# Altium schematic symbol library SchLib_ADH.SchLib: 241 symbols (part 5 of 9)
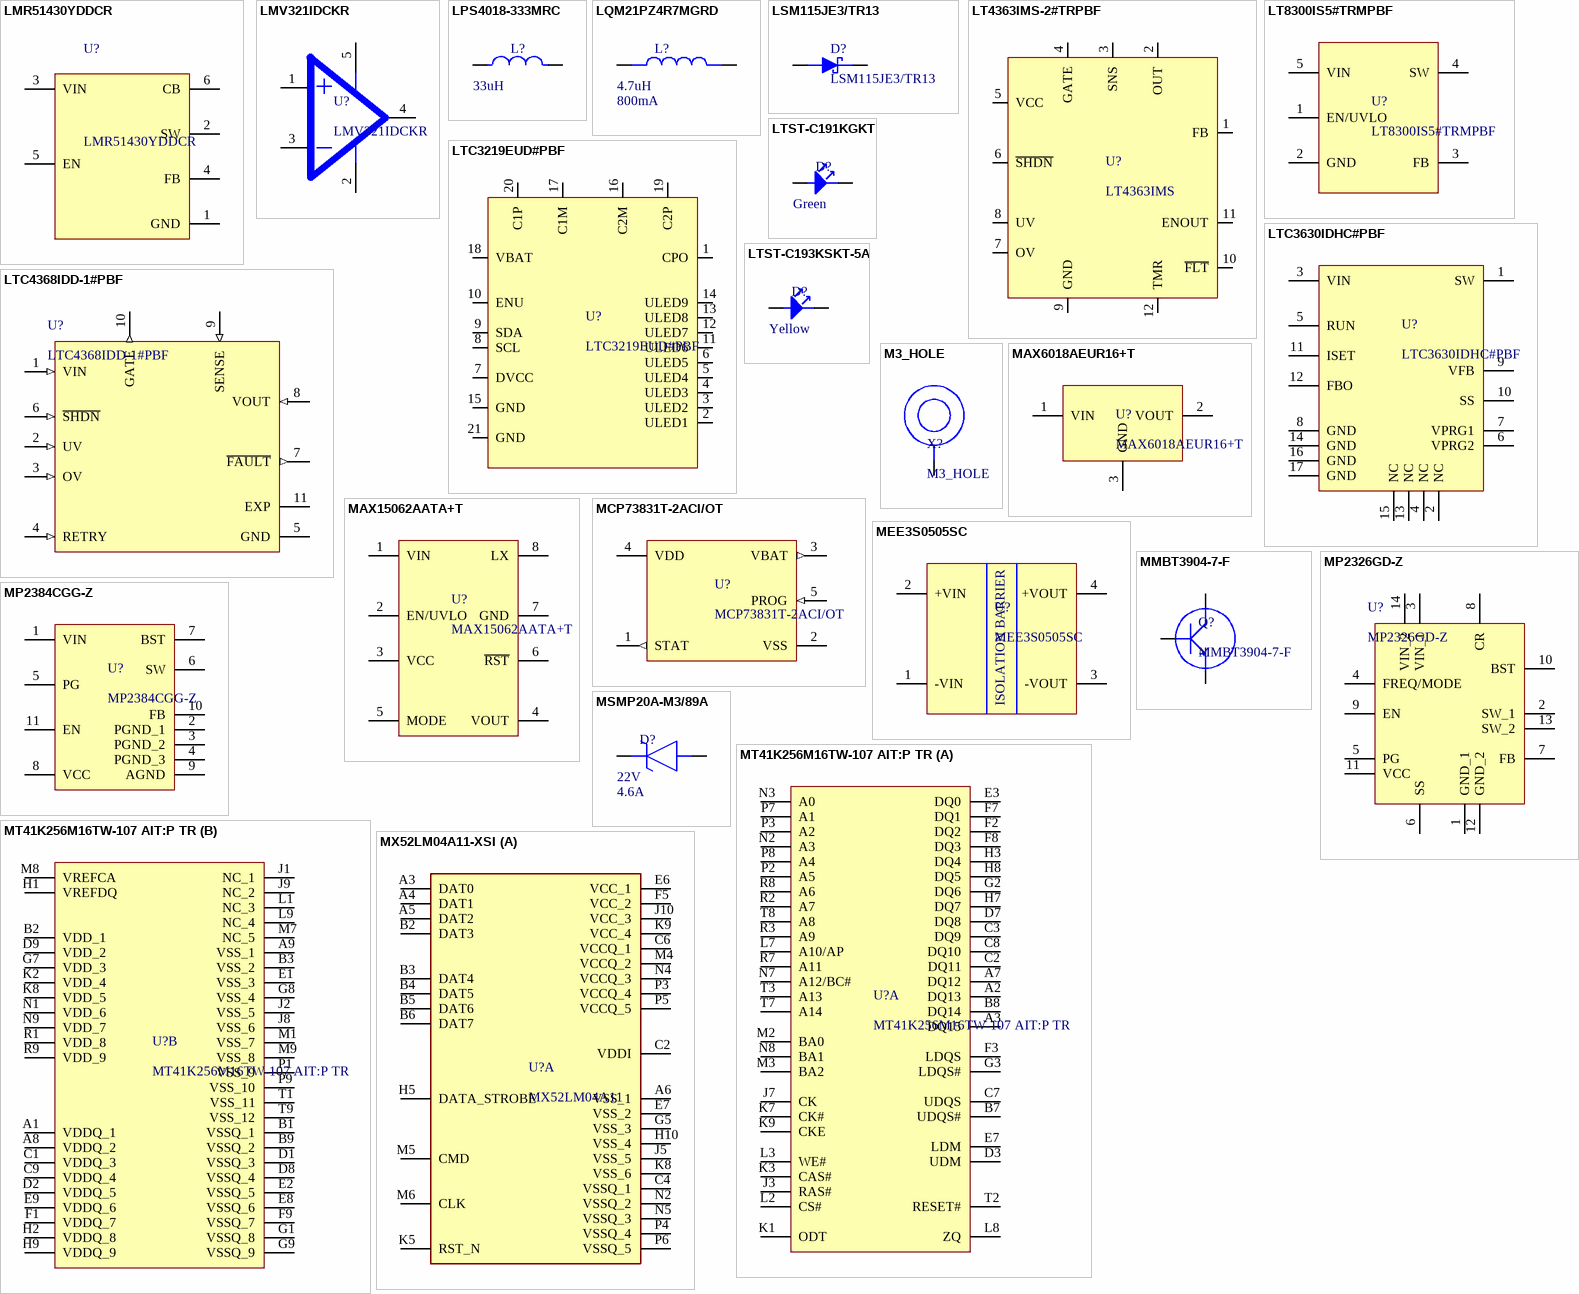
[diagram p11: symbols LMR51430YDDCR to MX52LM04A11-XSI]

## LT4363IMS-2#TRPBF
designator U?, comment LT4363IMS
IC SURGE STOPPER HV 12-MSOP; Manufacturer: Analog Devices / Linear Technology; Manufacturer Part Number: LT4363IMS-2#TRPBF; Working Voltage: 80V; Clamping Voltage: 27V; Number of Circuits: 1; Supplier: Digi-Key; Supplier Part Number: LT4363IMS-2#TRPBFCT-ND; RoHS: Yes; Category: Voltage Supervisors; Stock: 13263; Pricing: 1=8,22, 10=7,427, 25=7,0812, 100=6,1485, 250=5,87216, 500=5,354, 1000=4,66317 (USD); Case/Package: TSSOP; Pins: 12; Package Quantity: 2500; Packaging: Tape and Reel; Lead Free: Lead Free; RoHS Compliant: Yes; ComponentLink1URL: https://datasheet.ciiva.com/329/40854-329672.pdf?src-supplier=Digi-Key; ComponentLink1Description: https://datasheet.ciiva.com/329/40854-329672.pdf?src-supplier=Digi-Key
footprint SOP65P490X110-12N
pins: 1 FB, 2 OUT, 3 SNS, 4 GATE, 5 VCC, 6 ~{SHDN}, 7 OV, 8 UV, 9 GND, 10 ~{FLT}, 11 ENOUT, 12 TMR

## LT8300IS5#TRMPBF
designator U?
IC REG FLYBACK INV ISO TSOT23; Manufacturer: Analog Devices / Linear Technology; Supplier: Digikey; Supplier Part Number: 505-LT8300IS5#TRMPBFCT-ND; Manufacturer Part Number: LT8300IS5#TRMPBF; RoHS: Yes; Category: Voltage Regulators - Switching; Stock: 7693; Pricing: 1=9,62, 10=8,686, 25=8,282, 100=7,1912, 250=6,868 (USD); ComponentLink1URL: https://datasheet.ciiva.com/6594/42025-6594942.pdf?src-supplier=Digikey; ComponentLink1Description: https://datasheet.ciiva.com/6594/42025-6594942.pdf?src-supplier=Digikey
footprint SOT95P280X100-5N
pins: 1 EN/UVLO, 2 GND, 3 FB, 4 SW, 5 VIN

## LTC3219EUD#PBF
designator U?
LED Driver 9 Segment 2100uA Supply Current 20-Pin QFN EP Tube; Manufacturer: Analog Devices / Linear Technology; Supplier: Digi-Key; Supplier Part Number: 505-LTC3219EUD#PBF-ND; Manufacturer Part Number: LTC3219EUD#PBF; RoHS: Yes; Category: LED Drivers; Stock: 7227; Pricing: 1=5,86, 10=5,264, 25=4,9768, 100=4,3132, 250=4,092, 500=3,67176, 1000=3,09666, 2500=2,94183 (USD); ComponentLink1URL: https://datasheet.ciiva.com/1553/1727693-1553028.pdf?src-supplier=Digi-Key; ComponentLink1Description: https://datasheet.ciiva.com/1553/1727693-1553028.pdf?src-supplier=Digi-Key; ComponentLink2URL: https://datasheet.ciiva.com/1553/1727693-1553028.pdf?src-supplier=Farnell; ComponentLink2Description: https://datasheet.ciiva.com/1553/1727693-1553028.pdf?src-supplier=Farnell; ComponentLink3URL: https://datasheet.ciiva.com/15135/getdatasheetpartid-433445-15135304.pdf?src-supplier=Verical; ComponentLink3Description: https://datasheet.ciiva.com/15135/getdatasheetpartid-433445-15135304.pdf?src-supplier=Verical; ComponentLink4URL: https://datasheet.ciiva.com/48696/001255905-da-01-en-ic-led-drivr-q-ltc3219eud-pbf-qfn-20-ltc-48696182.pdf?src-supplier=Conrad; ComponentLink4Description: https://datasheet.ciiva.com/48696/001255905-da-01-en-ic-led-drivr-q-ltc3219eud-pbf-qfn-20-ltc-48696182.pdf?src-supplier=Conrad
footprint QFN40P300X300X80-21N
pins: 1 CPO, 2 ULED1, 3 ULED2, 4 ULED3, 5 ULED4, 6 ULED5, 7 DVCC, 8 SCL, 9 SDA, 10 ENU, 11 ULED6, 12 ULED7, 13 ULED8, 14 ULED9, 15 GND, 16 C2M, 17 C1M, 18 VBAT, 19 C2P, 20 C1P, 21 GND

## LTC3630IDHC#PBF
designator U?
Conv DC-DC 4V to 65V Synchronous Step Down Single-Out 0.8V to 65V 0.5A Automotive 16-Pin DFN EP; Manufacturer: Analog Devices / Linear Technology; Efficiency: 85%; Output Current: 500mA; Number of Outputs: 1; Min Output Voltage: 5V; Synchronous Rectifier: Yes; Switching Frequency: 750kHz; Output Type: Adjustable (Programmable),Adjustable; Supplier: Digikey; Supplier Part Number: LTC3630IDHC#PBF-ND; Manufacturer Part Number: LTC3630IDHC#PBF; RoHS: Yes; Category: Voltage Regulators - Switching; Stock: 13899; Pricing: 1=10,22, 10=9,229, 73=8,79959, 146=7,64062, 292=7,29726, 511=6,65337, 1022=5,79487 (USD); Case/Package: DFN; Pins: 16; Min Operating Temperature: -40°C; Max Operating Temperature: 125°C; Min Input Voltage: 4V; Max Supply Voltage: 65V; Max Output Voltage: 65V; Series: -; RoHS Compliant: Yes; ComponentLink1URL: https://datasheet.ciiva.com/14152/ltc3630-eng-tds-14152937.pdf?src-supplier=Distrelec; ComponentLink1Description: https://datasheet.ciiva.com/14152/ltc3630-eng-tds-14152937.pdf?src-supplier=Distrelec
footprint SON50P500X300X80-17N
pins: 1 SW, 2 NC, 3 VIN, 4 NC, 5 RUN, 6 VPRG2, 7 VPRG1, 8 GND, 9 VFB, 10 SS, 11 ISET, 12 FBO, 13 NC, 14 GND, 15 NC, 16 GND, 17 GND

## LTC4368IDD-1#PBF
designator U?
100V UV/OV and Reverse Protection Controller with Bidirectional Circuit Breaker; MF: Analog Devices; SnapEDA_Link: https://www.snapeda.com/parts/LTC4368IDD-1%23PBF/Analog+Devices/view-part/?ref=snap; Package: DFN -10 Analog Devices; Value: *; MP: LTC4368IDD-1#PBF; Check_prices: https://www.snapeda.com/parts/LTC4368IDD-1%23PBF/Analog+Devices/view-part/?ref=eda
footprint SON50P300X300X80-11N
pins: 1 VIN (in), 2 UV (in), 3 OV (in), 4 RETRY (in), 5 GND (power), 6 ~{SHDN} (in), 7 ~{FAULT} (out), 8 VOUT (in), 9 SENSE (in), 10 GATE (out), 11 EXP (power)

## LTST-C191KGKT
designator D?  Color: Green  (hidden comment: LTST-C191KGKT)
LTST-C191KGKT Lite-On LED, green, 18-71mcd, 130, 1.9V-2.4V SMD, 0603 1.6x0.8x0.55mm RoHS; Manufacturer: Vishay Lite-On; Lens Color: Colorless; Luminous Intensity: 35mcd; Viewing Angle: 130°; Lens Style: Flat,Rectangular,Colorless; Forward Voltage: 2V; Dominant Wavelength: 571nm; Test Current: 20mA; Lens Transparency: Clear; Wavelength: 574nm; Number of LEDs: 1; Max Power Dissipation: 75mW; Lens Size: 0.8mm; Supplier: Digi-Key; Supplier Part Number: 160-1446-1-ND; Manufacturer Part Number: LTST-C191KGKT; RoHS: Yes; Stock: 1655174; Pricing: 1=0,25, 10=0,136, 100=0,063, 500=0,05818, 1000=0,04557, 2000=0,0446 (USD); Mounting Technology: Surface Mount; Case/Package: 0603; Pins: 2; Case Code (Metric): 1608; Case Code (Imperial): 0603; Min Operating Temperature: -55°C; Max Operating Temperature: 85°C; Packaging: Tape and Reel; Series: -; Length: 1.6mm; Width: 0.8mm; Height: 0.65mm; RoHS Compliant: Yes; Lead Free: Lead Free; ComponentLink1URL: https://datasheet.ciiva.com/2109/ltst-c191kgkt-2109973.pdf?src-supplier=Digi-Key; ComponentLink1Description: https://datasheet.ciiva.com/2109/ltst-c191kgkt-2109973.pdf?src-supplier=Digi-Key
footprint LED_0603_GREEN
pins: 1, 2

## LTST-C193KSKT-5A
designator D?  Color: Yellow  (hidden comment: LTST-C193KSKT-5A)
Yellow 591nm LED Indication - Discrete 2V 0603 (1608 Metric); Manufacturer: Vishay Lite-On; Lens Color: Colorless; Lens Style: Flat,Diffused,Colorless,Rectangular; Viewing Angle: 130°; Luminous Intensity: 45mcd; Forward Current: 30mA; Forward Voltage: 2.3V; Dominant Wavelength: 594.5nm; Test Current: 5mA; Lens Transparency: Clear; Number of Elements: 1; Power Dissipation: 75mW; Reverse Voltage: 5V; Lens Size: 0.8mm; Supplier: Digi-Key; Supplier Part Number: 160-1831-1-ND; Manufacturer Part Number: LTST-C193KSKT-5A; RoHS: Yes; Category: LEDs; Stock: 58409; Pricing: 1=0,37, 10=0,201, 100=0,0933, 500=0,08612, 1000=0,06745, 2000=0,06602 (USD); Mounting Technology: Surface Mount; Case/Package: 0603; Pins: 2; Case Code (Metric): 1608; Case Code (Imperial): 0603; Min Operating Temperature: -55°C; Max Operating Temperature: 85°C; Packaging: Tape and Reel; Package Quantity: 3000; Illumination Color: Yellow; Number of LEDs: 1; Series: -; Length: 1.6mm; Width: 0.8mm; Height: 0.45mm; Depth: 0.8mm; Radiation Hardening: No; Lead Free: Lead Free; RoHS Compliant: Yes; ComponentLink1URL: https://datasheet.ciiva.com/11775/0900766b80dc0553-11775611.pdf?src-supplier=Rs; ComponentLink1Description: https://datasheet.ciiva.com/11775/0900766b80dc0553-11775611.pdf?src-supplier=Rs; ComponentLink2URL: https://datasheet.ciiva.com/4688/lite-on-ltst-c193kskt-5a-187434-4688750.pdf?src-supplier=Mouser; ComponentLink2Description: https://datasheet.ciiva.com/4688/lite-on-ltst-c193kskt-5a-187434-4688750.pdf?src-supplier=Mouser; ComponentLink3URL: https://datasheet.ciiva.com/26890/getdatasheetpartid-683868-26890500.pdf?src-supplier=Verical; ComponentLink3Description: https://datasheet.ciiva.com/26890/getdatasheetpartid-683868-26890500.pdf?src-supplier=Verical; ComponentLink4URL: https://datasheet.ciiva.com/2110/s-110-ltst-c193kskt-5a-2110277.pdf?src-supplier=Digi-Key; ComponentLink4Description: https://datasheet.ciiva.com/2110/s-110-ltst-c193kskt-5a-2110277.pdf?src-supplier=Digi-Key; ComponentLink5URL: https://datasheet.ciiva.com/2110/s-110-ltst-c193kskt-5a-2110276.pdf?src-supplier=Digi-Key; ComponentLink5Description: https://datasheet.ciiva.com/2110/s-110-ltst-c193kskt-5a-2110276.pdf?src-supplier=Digi-Key; ComponentLink6URL: https://datasheet.ciiva.com/2110/s-110-ltst-c193kskt-5a-2110278.pdf?src-supplier=Digi-Key; ComponentLink6Description: https://datasheet.ciiva.com/2110/s-110-ltst-c193kskt-5a-2110278.pdf?src-supplier=Digi-Key
footprint LED_0603_YELLOW
pins: 1, 2

## M3_HOLE
designator X?
M3 Mounting Hole
footprint M3_HOLE
pins: 1

## MAX6018AEUR16+T
designator U?
IC VREF SERIES 1.6V SOT23-3; Manufacturer: Maxim; Max Supply Voltage: 6V; Max Output current: 1mA; Tolerance: 0.2%; Temperature Coefficient: 50ppm/°C; Output Type: Fixed; Operating Supply Current: 6uA; Supplier: Digikey; Supplier Part Number: MAX6018AEUR16+TCT-ND; Manufacturer Part Number: MAX6018AEUR16+T; RoHS: Yes; Category: Voltage References; Stock: 3730; Pricing: 1=4,58, 10=4,11, 25=3,886, 100=3,3678, 250=3,19512, 500=2,86698, 1000=2,41794 (USD); Mounting Technology: Surface Mount; Case/Package: SOT-23-3; Pins: 3; Min Operating Temperature: -40°C; Max Operating Temperature: 85°C; Output Voltage: 1.6V; Package Quantity: 2500; Packaging: Tape and Reel; Output Current: 1mA; Reference Voltage: 1.6V; Reference Type: Series; Min Output Voltage: 1.6V; Series: -; Radiation Hardening: No; Lead Free: Lead Free; RoHS Compliant: Yes; Reach SVHC Compliant: Unknown; ComponentLink1URL: https://datasheet.ciiva.com/2008/max6018-max6018b-2008417.pdf?src-supplier=Digikey; ComponentLink1Description: https://datasheet.ciiva.com/2008/max6018-max6018b-2008417.pdf?src-supplier=Digikey; ComponentLink2URL: https://datasheet.ciiva.com/2008/max6018-max6018b-2008418.pdf?src-supplier=Digikey; ComponentLink2Description: https://datasheet.ciiva.com/2008/max6018-max6018b-2008418.pdf?src-supplier=Digikey; ComponentLink3URL: https://datasheet.ciiva.com/2008/max6018-max6018b-2008419.pdf?src-supplier=Digikey; ComponentLink3Description: https://datasheet.ciiva.com/2008/max6018-max6018b-2008419.pdf?src-supplier=Digikey
footprint SOT95P237X112-3N
pins: 1 VIN, 2 VOUT, 3 GND

## MAX15062AATA+T
designator U?
Industrys Smallest High-Voltage Synchronous Buck Regulator; Manufacturer: Maxim; Number of Outputs: 1; Min Input Voltage: 4.5V; Max Supply Voltage: 60V; Min Output Voltage: 3.3V; Output Current: 300mA; Switching Frequency: 500kHz; Synchronous Rectifier: Yes; Output Type: Fixed; Output Configuration: Positive; Supplier: Digikey; Supplier Part Number: MAX15062AATA+TCT-ND; Manufacturer Part Number: MAX15062AATA+T; RoHS: Yes; Category: Voltage Regulators - Switching; Stock: 24218; Pricing: 1=3,22, 10=2,888, 25=2,7304, 100=2,3665, 250=2,24508, 500=2,01452, 1000=1,69899 (USD); Mounting Technology: Surface Mount; Case/Package: WFDFN; Pins: 8; Min Operating Temperature: -40°C; Max Operating Temperature: 125°C; Packaging: Tape and Reel; Package Quantity: 2500; Min Supply Voltage: 4.5V; Series: -; Radiation Hardening: No; RoHS Compliant: Yes; Reach SVHC Compliant: Unknown; ComponentLink1URL: https://datasheet.ciiva.com/24021/max15062-257927-24021067.pdf?src-supplier=Mouser; ComponentLink1Description: https://datasheet.ciiva.com/24021/max15062-257927-24021067.pdf?src-supplier=Mouser
footprint SON50P200X200X80-8N
pins: 1 VIN, 2 EN/UVLO, 3 VCC, 4 VOUT, 5 MODE, 6 ~{RST}, 7 GND, 8 LX

## MCP73831T-2ACI/OT
designator U?
MCP73831 Series Single-Cell Li-Ion/Li-Polymer Battery Charge Controller SOT-23-5; Manufacturer: Microchip; Number of Cells: 1; Max Supply Voltage: 6V; Output Voltage: 4.2V; Min Supply Voltage: 3.75V; Output Current: 500mA; Max Output Voltage: 4.5V; Max Power Dissipation: 1.54W; Drain to Source Resistance: 350mR; Min Output Voltage: 4.168V; Voltage Rating: 4.534V; Fault Protection: Over Voltage; Supplier: Digi-Key; Supplier Part Number: MCP73831T-2ACI/OTCT-ND; Manufacturer Part Number: MCP73831T-2ACI/OT; RoHS: Yes; Category: Battery Management; Stock: 149771; Pricing: 1=0,76, 25=0,63, 100=0,6125 (USD); Mounting Technology: Surface Mount; Case/Package: SOT-23; Pins: 5; Weight: 0.00709oz; Min Operating Temperature: -40°C; Max Operating Temperature: 85°C; Number of Outputs: 1; Packaging: Tape and Reel; Number of Channels: 1; Termination: SMD/SMT; Max Charge Current: 500mA; Series: -; Battery Pack Voltage: 4.2V; Length: 3.1mm; Width: 1.8mm; Height: 1.3mm; Radiation Hardening: No; Reach SVHC Compliant: No; Lead Free: Lead Free; RoHS Compliant: Yes; ComponentLink1URL: https://datasheet.ciiva.com/22828/0900766b80d2b53a-22828876.pdf?src-supplier=Rs; ComponentLink1Description: https://datasheet.ciiva.com/22828/0900766b80d2b53a-22828876.pdf?src-supplier=Rs; ComponentLink2URL: https://datasheet.ciiva.com/26344/651521-da-01-en-contr-mcp73831t-2aci-ot-sot-23-5-mcp-26344458.pdf?src-supplier=Conrad; ComponentLink2Description: https://datasheet.ciiva.com/26344/651521-da-01-en-contr-mcp73831t-2aci-ot-sot-23-5-mcp-26344458.pdf?src-supplier=Conrad; ComponentLink3URL: https://datasheet.ciiva.com/1137/630369-1137803.pdf?src-supplier=Element14; ComponentLink3Description: https://datasheet.ciiva.com/1137/630369-1137803.pdf?src-supplier=Element14; ComponentLink4URL: https://datasheet.ciiva.com/28626/630369-28626439.pdf?src-supplier=Element14; ComponentLink4Description: https://datasheet.ciiva.com/28626/630369-28626439.pdf?src-supplier=Element14; ComponentLink5URL: https://datasheet.ciiva.com/1144/630369-1144461.pdf?src-supplier=Newark; ComponentLink5Description: https://datasheet.ciiva.com/1144/630369-1144461.pdf?src-supplier=Newark; ComponentLink6URL: https://datasheet.ciiva.com/16286/filehandler-aspxddocname-en025112-16286957.pdf?src-supplier=Future+Electronics; ComponentLink6Description: https://datasheet.ciiva.com/16286/filehandler-aspxddocname-en025112-16286957.pdf?src-supplier=Future+Electronics; ComponentLink7URL: https://datasheet.ciiva.com/1931/21984e-1931954.pdf?src-supplier=Digi-Key; ComponentLink7Description: https://datasheet.ciiva.com/1931/21984e-1931954.pdf?src-supplier=Digi-Key; ComponentLink8URL: https://datasheet.ciiva.com/1931/21984e-1931953.pdf?src-supplier=Digi-Key; ComponentLink8Description: https://datasheet.ciiva.com/1931/21984e-1931953.pdf?src-supplier=Digi-Key; ComponentLink9URL: https://datasheet.ciiva.com/46385/630369-46385324.pdf?src-supplier=Element14; ComponentLink9Description: https://datasheet.ciiva.com/46385/630369-46385324.pdf?src-supplier=Element14; ComponentLink10URL: https://datasheet.ciiva.com/3213/21984e-3213404.pdf?src-supplier=Avnet; ComponentLink10Description: https://datasheet.ciiva.com/3213/21984e-3213404.pdf?src-supplier=Avnet; ComponentLink11URL: https://datasheet.ciiva.com/1931/21984e-1931955.pdf?src-supplier=Digi-Key; ComponentLink11Description: https://datasheet.ciiva.com/1931/21984e-1931955.pdf?src-supplier=Digi-Key
footprint SOT95P280X145-5N
pins: 1 STAT (out), 2 VSS (power), 3 VBAT (out), 4 VDD (power), 5 PROG (in)

## MEE3S0505SC
designator U?
Module DC-DC 5VIN 1-OUT 5V 0.6A 3W 4-Pin SIP Tube; Manufacturer: Murata; Number of Outputs: 1; Output Current: 600mA; Efficiency: 83%; Min Input Voltage: 4.5V; Max Supply Voltage: 5.5V; Isolation Voltage: 1kV; Isolation: Isolated; Supplier: Digikey; Supplier Part Number: 811-2360-5-ND; Manufacturer Part Number: MEE3S0505SC; RoHS: Yes; Category: Board Mount Modules; Stock: 2275; Pricing: 1=11,84, 5=11,78, 10=11,7, 25=11,57, 50=11,28, 100=10,72, 250=10,03, 500=9,35004, 1000=8,76001 (USD); Mounting Technology: Through Hole; Case/Package: SIP; Pins: 4; Weight: 2.3g; Min Operating Temperature: -40°C; Max Operating Temperature: 85°C; Output Voltage: 5V; Output Power: 3W; Package Quantity: 35; Packaging: Rail/Tube; Min Input Voltage (DC): 4.5V; Nominal Output Voltage: 5V; Max Output current: 600mA; Nominal Supply Voltage: 5V; Voltage - Output 1: 5V; Current - Output 1: 600mA; Max Input Voltage (DC): 5.5V; Max Output Power: 3W; Max Power Dissipation: 3W; Series: MEE3; Length: 0.56inch; Width: 0.32inch; Height: 0.4inch; Depth: 14.15mm; Radiation Hardening: No; Reach SVHC Compliant: No; RoHS Compliant: Yes; ComponentLink1URL: https://datasheet.ciiva.com/11836/0900766b8105c5ab-11836741.pdf?src-supplier=Rs; ComponentLink1Description: https://datasheet.ciiva.com/11836/0900766b8105c5ab-11836741.pdf?src-supplier=Rs; ComponentLink2URL: https://datasheet.ciiva.com/8011/1790446-8011609.pdf?src-supplier=Element14; ComponentLink2Description: https://datasheet.ciiva.com/8011/1790446-8011609.pdf?src-supplier=Element14; ComponentLink3URL: https://datasheet.ciiva.com/2370/kdc-mee3-2370068.pdf?src-supplier=Digikey; ComponentLink3Description: https://datasheet.ciiva.com/2370/kdc-mee3-2370068.pdf?src-supplier=Digikey; ComponentLink4URL: https://datasheet.ciiva.com/18019/getdatasheetpartid-506706-18019654.pdf?src-supplier=Verical; ComponentLink4Description: https://datasheet.ciiva.com/18019/getdatasheetpartid-506706-18019654.pdf?src-supplier=Verical
footprint MEE3S0505SC
pins: 1 -VIN, 2 +VIN, 3 -VOUT, 4 +VOUT
text: ISOLATION BARRIER

## MMBT3904-7-F
designator Q?
Transistor General Purpose BJT NPN 40 Volt 0.2A Automotive 3-Pin SOT-23; Manufacturer: Diodes Zetex; Max Power Dissipation: 300mW; Collector Emitter Voltage (VCEO): 40V; Max Collector Current: 200mA; Collector Base Voltage (VCBO): 60V; Power Dissipation: 350mW; Frequency: 300MHz; hFE Min: 100; Number of Elements: 1; Emitter Base Voltage (VEBO): 6V; Collector Emitter Saturation Voltage: 300mV; Supplier: Digi-Key; Supplier Part Number: MMBT3904-FDICT-ND; Manufacturer Part Number: MMBT3904-7-F; RoHS: Yes; Category: BJTs; Stock: 5651002; Pricing: 1=0,12, 10=0,086, 100=0,0467, 500=0,03666, 1000=0,02545 (USD); Mounting Technology: Surface Mount; Case/Package: SOT-23; Pins: 3; Weight: 0.000282oz; Min Operating Temperature: -55°C; Max Operating Temperature: 150°C; Polarity: NPN; Packaging: Tape and Reel; Voltage Rating (DC): 40V; Package Quantity: 3000; Transition Frequency: 300MHz; Collector Emitter Breakdown Voltage: 40V; Max Breakdown Voltage: 40V; Continuous Collector Current: 200mA; Clock Frequency: 300MHz; Gain Bandwidth Product: 300MHz; Series: Automotive, AEC-Q101; Collector-emitter Voltage-Max: 300mV; Length: 3.05mm; Width: 1.4mm; Height: 1mm; Radiation Hardening: No; Reach SVHC Compliant: No; Lead Free: Lead Free; RoHS Compliant: Yes; ComponentLink1URL: https://datasheet.ciiva.com/11201/ds30036-11201778.pdf?src-supplier=Avnet; ComponentLink1Description: https://datasheet.ciiva.com/11201/ds30036-11201778.pdf?src-supplier=Avnet; ComponentLink2URL: https://datasheet.ciiva.com/15138/getdatasheetpartid-53265-15138780.pdf?src-supplier=Verical; ComponentLink2Description: https://datasheet.ciiva.com/15138/getdatasheetpartid-53265-15138780.pdf?src-supplier=Verical; ComponentLink3URL: https://datasheet.ciiva.com/22711/1915516-22711750.pdf?src-supplier=Element14; ComponentLink3Description: https://datasheet.ciiva.com/22711/1915516-22711750.pdf?src-supplier=Element14; ComponentLink4URL: https://datasheet.ciiva.com/11198/ds30036-11198999.pdf?src-supplier=Avnet; ComponentLink4Description: https://datasheet.ciiva.com/11198/ds30036-11198999.pdf?src-supplier=Avnet; ComponentLink5URL: https://datasheet.ciiva.com/6361/ds30036-6361256.pdf?src-supplier=Digi-Key; ComponentLink5Description: https://datasheet.ciiva.com/6361/ds30036-6361256.pdf?src-supplier=Digi-Key; ComponentLink6URL: https://datasheet.ciiva.com/6361/ds30036-6361254.pdf?src-supplier=Digi-Key; ComponentLink6Description: https://datasheet.ciiva.com/6361/ds30036-6361254.pdf?src-supplier=Digi-Key
footprint SOT95P230X110-3N
pins: 1 B, 2 E, 3 C

## MP2326GD-Z
designator U?
4A 19V 40µA IQ High Efficiency Step-Down Converter with PG and External SS; Manufacturer: Monolithic Power Systems; Manufacturer Lifecycle Status: ACTIVE; Max Supply Current: 1µA; Max Switching Frequency: 500kHz; Min Input Voltage: 3.9V; Min Output Voltage: 600mV; Nominal Supply Voltage: 12V; Number of Circuits: 1; Output Type: Adjustable; Switching Frequency: 1.1MHz; Topology: Buck; Supplier: Future Electronics; Supplier Part Number: 2145735; Manufacturer Part Number: MP2326GD-Z; RoHS: Compliant; Category: Voltage Regulators - Switching; Pricing: 5000=1,44 (USD); Case/Package: QFN; Contact Plating: Tin; Height - Seated (Max): 1mm; Length: 3mm; Lifecycle Status: Production; Max Supply Voltage: 19V; Max Operating Temperature: 125°C; Max Output current: 4A; Min Operating Temperature: -40°C; Mounting Technology: Surface Mount; Number of Outputs: 1; Pins: 14; Number of Terminals: 14; Operating Supply Voltage: 12V; Output Voltage: 600mV; REACH SVHC: Yes; Terminal Pitch: 500µm; Width: 2mm; ComponentLink1URL: https://datasheet.octopart.com:443/MP2326GD-Z-Monolithic-Power-Systems-datasheet-180786461.pdf?src-supplier=IHS; ComponentLink1Description: https://datasheet.octopart.com:443/MP2326GD-Z-Monolithic-Power-Systems-datasheet-180786461.pdf?src-supplier=IHS; ComponentLink2URL: https://datasheet.octopart.com:443/MP2326GD-Z-Monolithic-Power-Systems-datasheet-175903472.pdf?src-supplier=ODG+(Origin+Data+Global); ComponentLink2Description: https://datasheet.octopart.com:443/MP2326GD-Z-Monolithic-Power-Systems-datasheet-175903472.pdf?src-supplier=ODG+(Origin+Data+Global); ComponentLink3URL: https://datasheet.octopart.com:443/MP2326GD-Z-Monolithic-Power-Systems-datasheet-92240295.pdf?src-supplier=Augswan; ComponentLink3Description: https://datasheet.octopart.com:443/MP2326GD-Z-Monolithic-Power-Systems-datasheet-92240295.pdf?src-supplier=Augswan
footprint MP2326GDP
pins: 1 GND_1, 2 SW_1, 3 VIN_1, 4 FREQ/MODE, 5 PG, 6 SS, 7 FB, 8 CR, 9 EN, 10 BST, 11 VCC, 12 GND_2, 13 SW_2, 14 VIN_2

## MP2384CGG-Z
designator U?
24V, 4A, Low IQ, Synchronous Buck Converter with Forced Continuous Conduction Mode (CCM); Manufacturer: Monolithic Power Systems; Supplier: Digikey; Supplier Part Number: 1589-MP2384CGG-ZCT-ND; Manufacturer Part Number: MP2384CGG-Z; RoHS: No; Category: Voltage Regulators - Switching; Stock: 8713; Pricing: 1=1,88, 10=1,686, 25=1,5908, 100=1,3553, 250=1,2726, 500=1,11352, 1000=0,92264, 2500=0,859 (USD)
footprint 11-VFQFN
pins: 1 VIN, 2 PGND_1, 3 PGND_2, 4 PGND_3, 5 PG, 6 SW, 7 BST, 8 VCC, 9 AGND, 10 FB, 11 EN

## MSMP20A-M3/89A
designator D?  Voltage Rating: 22V  Current Rating: 4.6A  (hidden comment: MSMP20A-M3/89A)
MSMP Series 0.5 W 24.5 V Uni-Directional Surface Mount TVS Diode - MICRO SMD-2; Manufacturer: Vishay Semiconductors; Supplier: Digikey; Supplier Part Number: MSMP20A-M3/89AGICT-ND; Manufacturer Part Number: MSMP20A-M3/89A; RoHS: Yes; Category: TVS Diodes; Stock: 275034; Pricing: 1=0,25, 10=0,17, 100=0,0828, 500=0,06906, 1000=0,04798, 2000=0,04158 (USD); ComponentLink1URL: http://www.vishay.com/docs/89457/msmp6athrumsmp20a.pdf?src-supplier=Digikey; ComponentLink1Description: http://www.vishay.com/docs/89457/msmp6athrumsmp20a.pdf?src-supplier=Digikey; ComponentLink2URL: http://www.vishay.com/docs/89457/mspm6a.pdf?src-supplier=Digikey; ComponentLink2Description: http://www.vishay.com/docs/89457/mspm6a.pdf?src-supplier=Digikey; ComponentLink3URL: https://datasheet.octopart.com/MSMP20A-M3-89A-Vishay-datasheet-136275493.pdf?src-supplier=Future+Electronics; ComponentLink3Description: https://datasheet.octopart.com/MSMP20A-M3-89A-Vishay-datasheet-136275493.pdf?src-supplier=Future+Electronics
footprint DO-219AD
pins: 1 K, 2 A

## MT41K256M16TW-107 AIT:P TR
designator U?
1.45 V 4 Gbit Parallel 933 MHz 20 ns SMT V00H SDRAM DDR3L Memory IC - FBGA-96; Manufacturer: Micron; Frequency: 933MHz; Memory Format: RAM, SDRAM; Supplier: Future Electronics; Supplier Part Number: 2197819; RoHS: Compliant; Category: RAM; Pricing: 2000=12,36 (USD); Case/Package: TFBGA; Interface: Parallel; Max Operating Temperature: 95°C; Min Operating Temperature: -40°C; ComponentLink1URL: https://datasheet.octopart.com:443/MT41K256M16TW-107-AIT%3AP-TR-Micron-datasheet-165810451.pdf?src-supplier=SHENGYU+ELECTRONICS; ComponentLink1Description: https://datasheet.octopart.com:443/MT41K256M16TW-107-AIT%3AP-TR-Micron-datasheet-165810451.pdf?src-supplier=SHENGYU+ELECTRONICS; Manufacturer Part Number: MT41K256M16TW-107 AIT:P TR
footprint BGA96C80P9X16_800X1400X120
part A pins: A2 DQ13, A3 DQ15, A7 DQ12, B7 UDQS#, B8 DQ14, C2 DQ11, C3 DQ9, C7 UDQS, C8 DQ10, D3 UDM, D7 DQ8, E3 DQ0, E7 LDM, F2 DQ2, F3 LDQS, F7 DQ1, F8 DQ3, G2 DQ6, G3 LDQS#, H3 DQ4, H7 DQ7, H8 DQ5, J3 RAS#, J7 CK, K1 ODT, K3 CAS#, K7 CK#, K9 CKE, L2 CS#, L3 WE#, L7 A10/AP, L8 ZQ, M2 BA0, M3 BA2, N2 A3, N3 A0, N7 A12/BC#, N8 BA1, P2 A5, P3 A2, P7 A1, P8 A4, R2 A7, R3 A9, R7 A11, R8 A6, T2 RESET#, T3 A13, T7 A14, T8 A8
part B pins: A1 VDDQ_1, A8 VDDQ_2, A9 VSS_1, B1 VSSQ_1, B2 VDD_1, B3 VSS_2, B9 VSSQ_2, C1 VDDQ_3, C9 VDDQ_4, D1 VSSQ_3, D2 VDDQ_5, D8 VSSQ_4, D9 VDD_2, E1 VSS_3, E2 VSSQ_5, E8 VSSQ_6, E9 VDDQ_6, F1 VDDQ_7, F9 VSSQ_7, G1 VSSQ_8, G7 VDD_3, G8 VSS_4, G9 VSSQ_9, H1 VREFDQ, H2 VDDQ_8, H9 VDDQ_9, J1 NC_1, J2 VSS_5, J8 VSS_6, J9 NC_2, K2 VDD_4, K8 VDD_5, L1 NC_3, L9 NC_4, M1 VSS_7, M7 NC_5, M8 VREFCA, M9 VSS_8, N1 VDD_6, N9 VDD_7, P1 VSS_9, P9 VSS_10, R1 VDD_8, R9 VDD_9, T1 VSS_11, T9 VSS_12

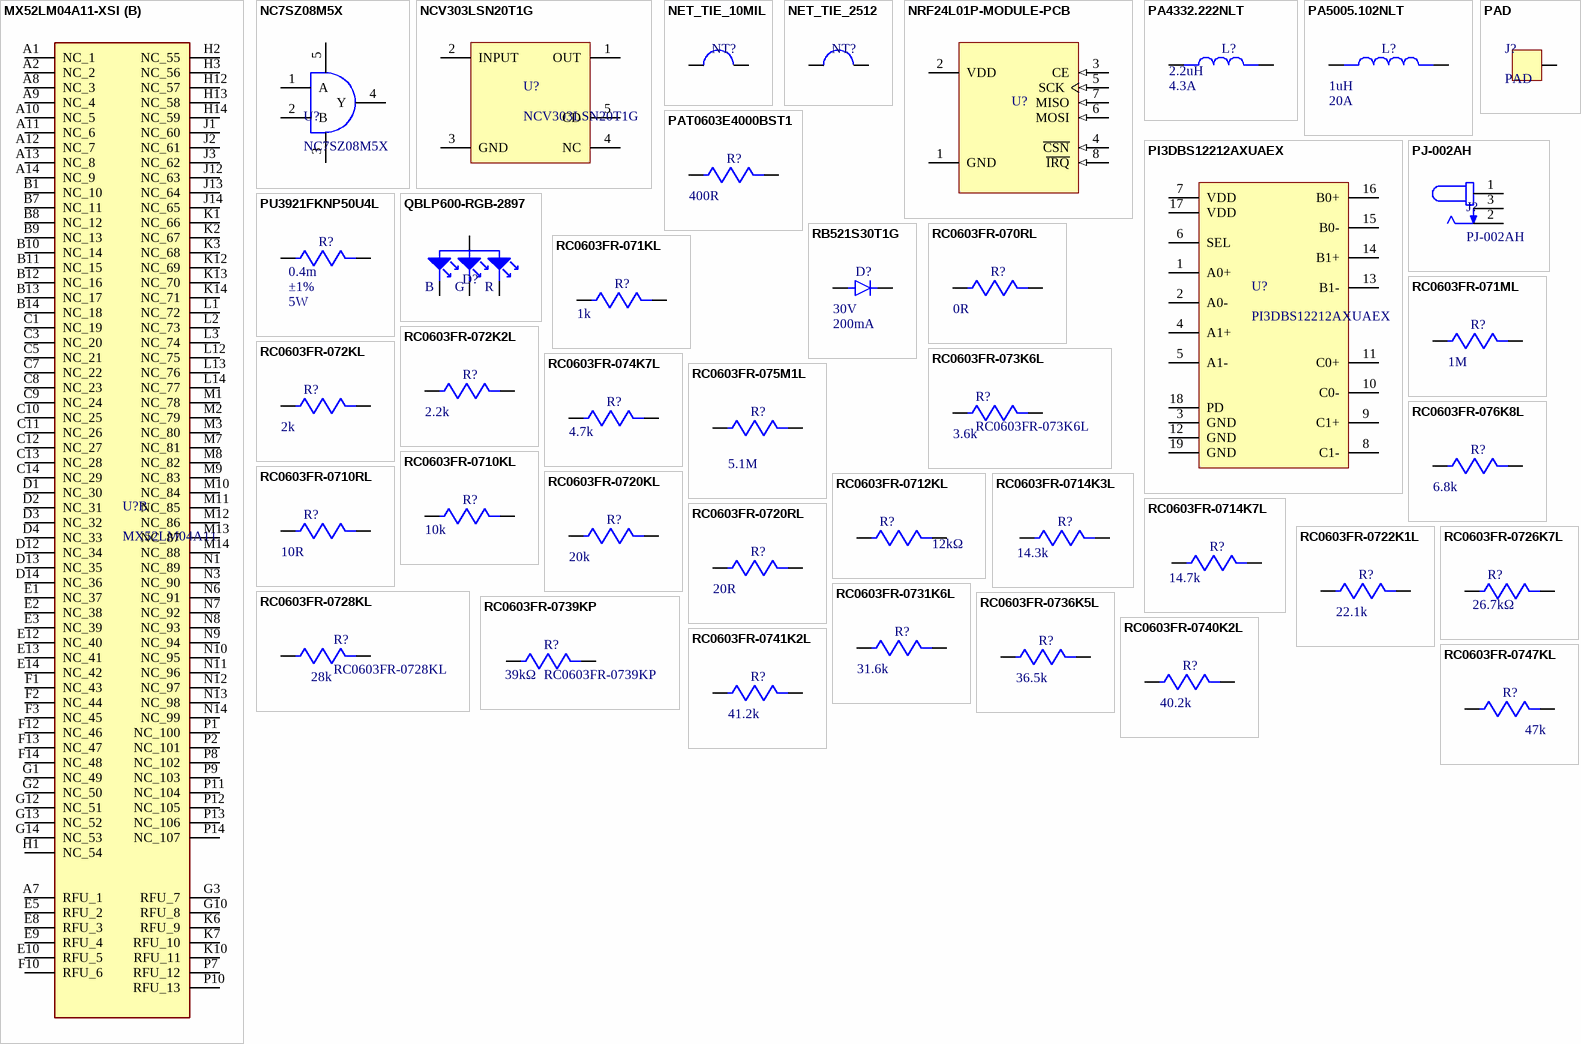
[diagram p4: symbols MX52LM04A11-XSI to RC0603FR-0747KL]

## MX52LM04A11-XSI
designator U?, comment MX52LM04A11
FLASH - NAND (MLC) Memory IC 32Gbit eMMC_5.1 200 MHz 153-LFBGA (11.5x13); Manufacturer: Macronix; Manufacturer Part Number: MX52LM04A11-XSI; Interface: Parallel, Serial; Clock Frequency: 200MHz; Max Supply Current: 45mA; Max Supply Voltage: 3.6V; Min Supply Voltage: 2.7V; Number of Circuits: 1; Operating Supply Voltage: 3.3V; Supplier: Mouser; Supplier Part Number: 95-52LM04A11XSIT; RoHS: Compliant; Category: Flash; Stock: 2048; Pricing: 1=35,48, 10=32,83, 50=31, 100=30,17, 1000=29,03, 10000=29,03 (USD); Country of Origin: Taiwan; Export Control Classification Number (ECCN) Code: EAR99; Height - Seated (Max): 800µm; Harmonized Tariff Schedule (HTS) Code: 8542.32.00.51; Introduction Date: 2019-09-24; Length: 13mm; Lifecycle Status: Production; Max Operating Temperature: 85°C; Min Operating Temperature: -40°C; Number of Terminals: 153; REACH SVHC: Yes; Temperature Grade: Industrial; Terminal Pitch: 500µm; Width: 11.5mm
footprint BGA153C50P14X14_1150X1300X80
part A pins: A3 DAT0, A4 DAT1, A5 DAT2, A6 VSS_1, B2 DAT3, B3 DAT4, B4 DAT5, B5 DAT6, B6 DAT7, C2 VDDI, C4 VSSQ_1, C6 VCCQ_1, E6 VCC_1, E7 VSS_2, F5 VCC_2, G5 VSS_3, H5 DATA_STROBE, H10 VSS_4, J5 VSS_5, J10 VCC_3, K5 RST_N, K8 VSS_6, K9 VCC_4, M4 VCCQ_2, M5 CMD, M6 CLK, N2 VSSQ_2, N4 VCCQ_3, N5 VSSQ_3, P3 VCCQ_4, P4 VSSQ_4, P5 VCCQ_5, P6 VSSQ_5
part B pins: A1 NC_1, A2 NC_2, A7 RFU_1, A8 NC_3, A9 NC_4, A10 NC_5, A11 NC_6, A12 NC_7, A13 NC_8, A14 NC_9, B1 NC_10, B7 NC_11, B8 NC_12, B9 NC_13, B10 NC_14, B11 NC_15, B12 NC_16, B13 NC_17, B14 NC_18, C1 NC_19, C3 NC_20, C5 NC_21, C7 NC_22, C8 NC_23, C9 NC_24, C10 NC_25, C11 NC_26, C12 NC_27, C13 NC_28, C14 NC_29, D1 NC_30, D2 NC_31, D3 NC_32, D4 NC_33, D12 NC_34, D13 NC_35, D14 NC_36, E1 NC_37, E2 NC_38, E3 NC_39, E5 RFU_2, E8 RFU_3, E9 RFU_4, E10 RFU_5, E12 NC_40, E13 NC_41, E14 NC_42, F1 NC_43, F2 NC_44, F3 NC_45, F10 RFU_6, F12 NC_46, F13 NC_47, F14 NC_48, G1 NC_49, G2 NC_50, G3 RFU_7, G10 RFU_8, G12 NC_51, G13 NC_52, G14 NC_53, H1 NC_54, H2 NC_55, H3 NC_56, H12 NC_57, H13 NC_58, H14 NC_59, J1 NC_60, J2 NC_61, J3 NC_62, J12 NC_63, J13 NC_64, J14 NC_65, K1 NC_66, K2 NC_67, K3 NC_68, K6 RFU_9, K7 RFU_10, K10 RFU_11, K12 NC_69, K13 NC_70, K14 NC_71, L1 NC_72, L2 NC_73, L3 NC_74, L12 NC_75, L13 NC_76, L14 NC_77, M1 NC_78, M2 NC_79, M3 NC_80, M7 NC_81, M8 NC_82, M9 NC_83, M10 NC_84, M11 NC_85, M12 NC_86, M13 NC_87, M14 NC_88, N1 NC_89, N3 NC_90, N6 NC_91, N7 NC_92, N8 NC_93, N9 NC_94, N10 NC_95, N11 NC_96, N12 NC_97, N13 NC_98, N14 NC_99, P1 NC_100, P2 NC_101, P7 RFU_12, P8 NC_102, P9 NC_103, P10 RFU_13, P11 NC_104, P12 NC_105, P13 NC_106, P14 NC_107

## NC7SZ08M5X
designator U?
AND Gate, LVC/LCX/Z Series, 1-Func, 2-Input, CMOS, PDSO5; Manufacturer: ON Semiconductor / Fairchild; Package Body Material: Plastic; Load Capacitance (CL): 15pF; Channels: 1; Number of Inputs: 2; Propagation Delay (tpd): 12.7ns; Max Supply Voltage: 5.5V; Min Supply Voltage: 1.65V; Nominal Supply Voltage: 1.8V; Max I(ol): 24mA; Package Equivalence Code: TSOP5/6,.11,37; Power Supplies: 3.3V; Prop. Delay@Nom-Sup: 5.5ns; Schmitt Trigger: No; Qualification Status: Not Qualified; Supplier 1: Digikey; Manufacturer Part Number: NC7SZ08M5X; RoHS: Yes; Category: Logic Gates; Stock 1: 2138; Pricing 1: 1=0.33, 10=0.181, 25=0.1452, 100=0.1065, 250=0.0882, 500=0.0772, 1000=0.06813 (USD); Case/Package: LSSOP; Pins: 5; Package Shape: Rectangular; Min Operating Temperature: -40°C; Max Operating Temperature: 85°C; JESD-30 Code: R-PDSO-G5; Logic Type: AND GATE; Package Style: SMALL OUTLINE, LOW PROFILE, SHRINK PITCHMeter; Surface Mount: Yes; Technology: CMOS; Terminal Form: Gull Wing; Terminal Position: DUAL; Moisture Sensitivity Level: 1; Packaging: Tape and Reel; Length: 2.9mm; Width: 1.6mm; Height - Seated (Max): 1.45mm; Terminal Pitch: 0.95mm; Temperature Grade: INDUSTRIAL; Reach SVHC Compliant: Yes; RoHS Compliant: Yes; ComponentLink1URL: https://datasheet.ciiva.com:443/pdfs/VipMasterIC/IC/ONSM/ONSM-S-A0008936487/ONSM-S-A0008936487-1.pdf?src-supplier=IHS+Markit; ComponentLink1Description: https://datasheet.ciiva.com:443/pdfs/VipMasterIC/IC/ONSM/ONSM-S-A0008936487/ONSM-S-A0008936487-1.pdf?src-supplier=IHS+Markit; ComponentLink2URL: https://datasheet.ciiva.com/27054/1925718-27054868.pdf?src-supplier=Jameco; ComponentLink2Description: https://datasheet.ciiva.com/27054/1925718-27054868.pdf?src-supplier=Jameco; ComponentLink3URL: https://datasheet.ciiva.com/15090/getdatasheetpartid-89296-15090664.pdf?src-supplier=Verical; ComponentLink3Description: https://datasheet.ciiva.com/15090/getdatasheetpartid-89296-15090664.pdf?src-supplier=Verical; ComponentLink4URL: https://datasheet.ciiva.com/7970/715019-7970645.pdf?src-supplier=Element14; ComponentLink4Description: https://datasheet.ciiva.com/7970/715019-7970645.pdf?src-supplier=Element14; ComponentLink5URL: https://datasheet.ciiva.com/46415/715019-46415101.pdf?src-supplier=Element14; ComponentLink5Description: https://datasheet.ciiva.com/46415/715019-46415101.pdf?src-supplier=Element14; ComponentLink6URL: https://datasheet.ciiva.com/1861/nc7sz08-1861981.pdf?src-supplier=Digikey; ComponentLink6Description: https://datasheet.ciiva.com/1861/nc7sz08-1861981.pdf?src-supplier=Digikey; ComponentLink7URL: https://datasheet.ciiva.com/1861/nc7sz08-1861982.pdf?src-supplier=Digikey; ComponentLink7Description: https://datasheet.ciiva.com/1861/nc7sz08-1861982.pdf?src-supplier=Digikey; ComponentLink8URL: https://datasheet.ciiva.com/1861/nc7sz08-1861980.pdf?src-supplier=Digikey; ComponentLink8Description: https://datasheet.ciiva.com/1861/nc7sz08-1861980.pdf?src-supplier=Digikey; Supplier Part Number 1: NC7SZ08M5XCT-ND
footprint SOT65P210X110-5N
pins: 1 A, 2 B, 3 GND, 4 Y, 5 VCC

## NCV303LSN20T1G
designator U?
Processor Supervisor 2V 1 Active Low Automotive 5-Pin TSOP T/R; Manufacturer: ON Semiconductor; Max Supply Voltage: 10V; Min Supply Voltage: 800mV; Number of Voltages Monitored: 1; Accuracy: 2%; Operating Supply Current: 500nA; Overvoltage Threshold: 2.04V; Undervoltage Threshold: 1.96V; Watchdog Timer: No; Supplier: Digikey; Supplier Part Number: NCV303LSN20T1GOSCT-ND; Manufacturer Part Number: NCV303LSN20T1G; RoHS: Yes; Category: Voltage Supervisors; Stock: 55714; Pricing: 1=0,48, 10=0,409, 25=0,382, 100=0,2839, 250=0,2402, 500=0,22928, 1000=0,16923 (USD); Mounting Technology: Surface Mount; Case/Package: TSOP; Min Operating Temperature: -40°C; Max Operating Temperature: 125°C; Package Quantity: 3000; Packaging: Tape and Reel; Reset: Active Low; Threshold Voltage: 2V; Number of Monitored Inputs: 1; Type: Simple Reset/Power-On Reset; Series: -; RoHS Compliant: Yes; ComponentLink1URL: https://datasheet.ciiva.com/1980/ncp302-d-1980129.pdf?src-supplier=Digikey; ComponentLink1Description: https://datasheet.ciiva.com/1980/ncp302-d-1980129.pdf?src-supplier=Digikey
footprint SOT95P280X100-5N
pins: 1 OUT, 2 INPUT, 3 GND, 4 NC, 5 CD

## NET_TIE_10MIL
designator NT?  (value not drawn)
Net tie 10mil
footprint NET_TIE_10MIL
pins: 1, 2

## NET_TIE_2512
designator NT?  (value not drawn)  (net tie, no BOM)
Net tie 2512 SMD
footprint NET_TIE_2512
pins: 1, 2

## NRF24L01P-MODULE-PCB
designator U?  (value not drawn)
Transceiver Module 2.4GHz Whip, Tilt Through Hole; MF: Nordic Semiconductor; Package: None; MP: NRF24L01P-MODULE-PCB; Value: *; Availability: Bad; Price: None; SnapEDA_Link: https://www.snapeda.com/parts/NRF24L01P-MODULE-PCB/Nordic%20Semiconductor%20ASA/view-part/230534/?ref=snap; Mouser-Purchase-URL: https://snapeda.com/shop?store=Mouser&id=230534
footprint XCVR_NRF24L01P-MODULE-PCB
pins: 1 GND (power), 2 VDD (power), 3 CE (in), 4 ~{CSN} (in), 5 SCK (in), 6 MOSI (in), 7 MISO (in), 8 ~{IRQ} (in)

## PA4332.222NLT
designator L?  value 2.2uH  RMS Current (Irms): 4.3A  (hidden comment: PA4332.222NLT)
PA4332 SMT Shielded Drum Core Inductor Series, up to 5.8A, 2.0mm Max Height; Manufacturer: Pulse; ESR: 48mR; Supplier: Digikey; Supplier Part Number: 553-3290-1-ND; Manufacturer Part Number: PA4332.222NLT; RoHS: Yes; Category: Fixed Inductors; Stock: 54159; Pricing: 1=0,56, 10=0,477, 25=0,4376, 50=0,3976, 100=0,3539, 250=0,33404, 500=0,28634, 1000=0,25452 (USD); Height: 2mm; ComponentLink1URL: http://products.pulseelex.com/files/product_files/P761.pdf?src-supplier=Digikey; ComponentLink1Description: http://products.pulseelex.com/files/product_files/P761.pdf?src-supplier=Digikey; ComponentLink2URL: https://datasheet.octopart.com/PA4332.222NLT-Pulse-datasheet-137333238.pdf?src-supplier=Electro+Sonic; ComponentLink2Description: https://datasheet.octopart.com/PA4332.222NLT-Pulse-datasheet-137333238.pdf?src-supplier=Electro+Sonic
footprint PA4332.XXXNLT
pins: 1, 2

## PA5005.102NLT
designator L?  value 1uH  Current Rating: 20A  (hidden comment: PA5005.102NLT)
Inductor Power Shielded/Molded Wirewound 1uH 20% 100KHz 20A 0.00452Ohm DCR T/R; Manufacturer: Pulse; Supplier: Digikey; Supplier Part Number: 553-4098-1-ND; Manufacturer Part Number: PA5005.102NLT; RoHS: Yes; Category: Fixed Inductors; Stock: 6185; Pricing: 1=2,1, 10=1,785, 25=1,6448, 50=1,4698, 100=1,2249, 250=1,18988 (USD); ComponentLink1URL: https://datasheet.octopart.com/PA5005.102NLT-Pulse-datasheet-165531502.pdf?src-supplier=Master+Electronics; ComponentLink1Description: https://datasheet.octopart.com/PA5005.102NLT-Pulse-datasheet-165531502.pdf?src-supplier=Master+Electronics
footprint PA5005.XXXNLT
pins: 1, 2

## PAD
designator J?
1 mm via hole pad
footprint PAD
pins: 1

## PAT0603E4000BST1
designator R?  value 400R  (hidden comment: PAT0603E4000BST1)
SMD Chip Resistor, 400 Ohm, ± 0.1%, 150 mW, 0603 [1608 Metric], Thin Film, Precision; Manufacturer: Vishay Dale Thin Film; Power Rating: 150mW; Voltage Rating: 75V; Temperature Coefficient: 25ppm/°C; Supplier: Digi-Key; Supplier Part Number: PAT400ACT-ND; Manufacturer Part Number: PAT0603E4000BST1; RoHS: Yes; Category: Chip SMD Resistors; Stock: 93628; Pricing: 1=0,92, 10=0,759, 50=0,6424, 100=0,5284, 500=0,40238 (USD); Case/Package: 0603; Case Code (Imperial): 0603; Case Code (Metric): 1608; Min Operating Temperature: -55°C; Max Operating Temperature: 155°C; Tolerance: 0.1%; Packaging: Tape and Reel; Package Quantity: 1; Termination: SMD/SMT; Number of Terminations: 2; Max Power Dissipation: 150mW; Features: Moisture Resistant,Automotive AEC-Q200,Anti-Sulfur; Series: PAT; Length: 0.064inch; Width: 0.762mm; Height: 0.018inch; ComponentLink1URL: https://datasheet.ciiva.com/2529/pat-2529079.pdf?src-supplier=Digi-Key; ComponentLink1Description: https://datasheet.ciiva.com/2529/pat-2529079.pdf?src-supplier=Digi-Key; ComponentLink2URL: https://datasheet.ciiva.com/2529/pat-2529080.pdf?src-supplier=Digi-Key; ComponentLink2Description: https://datasheet.ciiva.com/2529/pat-2529080.pdf?src-supplier=Digi-Key; ComponentLink3URL: https://datasheet.ciiva.com/2529/pat-2529081.pdf?src-supplier=Digi-Key; ComponentLink3Description: https://datasheet.ciiva.com/2529/pat-2529081.pdf?src-supplier=Digi-Key
footprint RESISTOR_0603
pins: 1, 2

## PI3DBS12212AXUAEX
designator U?
Analog Switch/Analog Multiplexer Dual 4: 2 18-Pin X2QFN EP T/R; Manufacturer: Diodes; -3db Bandwidth: 10.6GHz; Number of Channels: 2; Supplier: Digikey; Supplier Part Number: PI3DBS12212AXUAEXDICT-ND; Manufacturer Part Number: PI3DBS12212AXUAEX; RoHS: Yes; Category: Decoders and Multiplexers; Stock: 22947; Pricing: 1=1,26, 10=1,129, 25=1,0648, 100=0,9074, 250=0,852, 500=0,75 (USD); Mounting Technology: Surface Mount; Min Operating Temperature: -40°C; Max Operating Temperature: 85°C; Series: -; RoHS Compliant: Yes
footprint IC_PI3DBS16212XUAEX
pins: 1 A0+, 2 A0-, 3 GND, 4 A1+, 5 A1-, 6 SEL, 7 VDD, 8 C1-, 9 C1+, 10 C0-, 11 C0+, 12 GND, 13 B1-, 14 B1+, 15 B0-, 16 B0+, 17 VDD, 18 PD, 19 GND

## PJ-002AH
designator J?
2.0 x 6.5 mm, 5.0 A, Horizontal, Through Hole, Dc Power Jack Connector; Manufacturer: CUI Devices; Body Color: Black; Shielding: Unshielded; Gender: Male; Number of Conductors: 2NUMBER; Current Rating: 5A; Insulation Resistance: 50MR; Voltage Rating: 24V; Inside Diameter: 2mm; Outside Diameter: 6.5mm; Supplier: Digikey; Supplier Part Number: CP-002AH-ND; Manufacturer Part Number: PJ-002AH; RoHS: Yes; Category: Power Connectors; Stock: 133139; Pricing: 1=0,69, 10=0,579, 25=0,5556, 50=0,544, 100=0,5203, 400=0,473, 800=0,41388, 1200=0,3784, 2800=0,34293 (USD); Mounting Technology: Through Hole; Contact Plating: Nickel,Silver; Contact Material: Brass; Color: 46Colour; Housing Material: PBT; Housing Color: 46Colour; Min Operating Temperature: -25°C; Max Operating Temperature: 85°C; Connector Type: Jack; Termination: Solder; Orientation: 5496OrientationType; Series: -; Packaging: 14Packaging; Contact Gender: 29Gender; Number of Contacts: 2NUMBER; Voltage Rating (DC): 24V; Diameter: 2.1mm; Height: 11.2mm; Lead Free: 5697LeadFree; Flammability Rating: UL94 V-0; ComponentLink1URL: https://datasheet.octopart.com/PJ-002AH-CUI-Devices-datasheet-137760668.pdf?src-supplier=Future+Electronics; ComponentLink1Description: https://datasheet.octopart.com/PJ-002AH-CUI-Devices-datasheet-137760668.pdf?src-supplier=Future+Electronics; ComponentLink2URL: https://datasheet.octopart.com/PJ-002AH-CUI-datasheet-73610.pdf?src-supplier=Digikey; ComponentLink2Description: https://datasheet.octopart.com/PJ-002AH-CUI-datasheet-73610.pdf?src-supplier=Digikey; ComponentLink3URL: https://datasheet.octopart.com/PJ-002AH-CUI-Devices-datasheet-103108262.pdf?src-supplier=Electro+Sonic; ComponentLink3Description: https://datasheet.octopart.com/PJ-002AH-CUI-Devices-datasheet-103108262.pdf?src-supplier=Electro+Sonic; ComponentLink4URL: https://datasheet.octopart.com/PJ-002AH-CUI-Devices-datasheet-141000102.pdf?src-supplier=Master+Electronics; ComponentLink4Description: https://datasheet.octopart.com/PJ-002AH-CUI-Devices-datasheet-141000102.pdf?src-supplier=Master+Electronics
footprint PJ-002AH
pins: 1, 2, 3

## PU3921FKNP50U4L
designator R?  value 0.4m  Tolerance: ±1%  Power Rating: 5W  (hidden comment: PU3921FKNP50U4L)
Shunt Chip Resistor Metal Plate 3921 0.4mOhm 1% Emboss T/R; Manufacturer: Yageo; Supplier: Digi-Key; Supplier Part Number: YAG6129CT-ND; Manufacturer Part Number: PU3921FKNP50U4L; RoHS: Yes; Category: Chip SMD Resistors; Stock: 3221; Pricing: 1=1,72, 10=1,445, 25=1,4008, 50=1,2778, 100=1,0469, 250=0,93384, 500=0,7864, 1000=0,65369 (USD); ComponentLink1URL: https://www.yageo.com/upload/media/product/productsearch/datasheet/rchip/PYu-PU_51_RoHS_L_6.pdf?src-supplier=Digi-Key; ComponentLink1Description: https://www.yageo.com/upload/media/product/productsearch/datasheet/rchip/PYu-PU_51_RoHS_L_6.pdf?src-supplier=Digi-Key; ComponentLink2URL: https://datasheet.octopart.com/PU3921FKNP50U4L-Yageo-datasheet-164512547.pdf?src-supplier=Future+Electronics; ComponentLink2Description: https://datasheet.octopart.com/PU3921FKNP50U4L-Yageo-datasheet-164512547.pdf?src-supplier=Future+Electronics
footprint RESC6330X90N
pins: 1, 2

## QBLP600-RGB-2897
designator D?  (value not drawn)
LED Tri-Color Blue/Green/Red Automotive 4-Pin Chip LED T/R; Manufacturer: QT-Brightek; Color: Blue,Green,Red; Lens Color: Colorless; Lens Style: Flat; Lens Transparency: Clear; Luminous Intensity: 115mcd; Forward Voltage: 3.1V; Test Current: 20mA; Dominant Wavelength: 465nm; Lens Size: 1.1mm; Supplier: Digi-Key; Supplier Part Number: 1516-1366-1-ND; Manufacturer Part Number: QBLP600-RGB-2897; RoHS: Yes; Category: LEDs; Stock: 35160; Pricing: 1=0,46, 10=0,283, 100=0,1626 (USD); Mounting Technology: Surface Mount; Case/Package: SMD/SMT; Packaging: Cut Tape; Series: QBLP600; Length: 1.6mm; Width: 1.5mm; Height: 0.9mm; ComponentLink1URL: http://www.qt-brightek.com/datasheet/QBLP600-RGB-2897.pdf?src-supplier=Digi-Key; ComponentLink1Description: http://www.qt-brightek.com/datasheet/QBLP600-RGB-2897.pdf?src-supplier=Digi-Key
footprint QBLP600RGB2897
pins: 1, 2, 3, 4
text: B; G; R

## RB521S30T1G
designator D?  Current Rating: 200mA  Max Repetitive Reverse Voltage (Vrrm): 30V  (hidden comment: RB521S30T1G)
SCHOTTKY BARRIER DIODE Rectifier Diode, Schottky, 1 Phase, 1 Element, 0.2A, 30V V(RRM), Silicon; Manufacturer: ON Semiconductor; Element Configuration: Single; Max Surge Current: 1A; Max Reverse Current: 30uA; Forward Voltage: 500mV; Power Dissipation: 200mW; Polarity: Standard; Supplier: Digikey; Supplier Part Number: RB521S30T1GOSCT-ND; Manufacturer Part Number: RB521S30T1G; RoHS: Yes; Category: Rectifier Diodes; Stock: 200235; Pricing: 1=0,15, 10=0,089, 100=0,0549, 500=0,03974, 1000=0,03482 (USD); Case/Package: SOD-523-2; Pins: 2; Min Operating Temperature: -55°C; Max Operating Temperature: 125°C; Forward Current: 200mA; Package Quantity: 1; Packaging: Tape and Reel; Average Rectified Current: 200mA; Max Reverse Leakage Current: 30uA; Peak Non-Repetitive Surge Current: 1A; Max Forward Surge Current (Ifsm): 1A; Voltage Rating (DC): 30V; Output Current: 200mA; Max Reverse Voltage (DC): 30V; Series: -; Length: 1.3mm; Width: 0.9mm; Height: 0.7mm; Radiation Hardening: No; RoHS Compliant: Yes; Reach SVHC Compliant: No; Lead Free: Lead Free
footprint DIOM168X70N
pins: 1 C, 2 A

## RC0603FR-070RL
designator R?  value 0R  (hidden comment: RC0603FR-070RL)
Zero Ohm Resistor, Jumper, 0603 [1608 Metric], Thick Film, 100 mW, 1 A, Surface Mount; Manufacturer: Yageo; Power Rating: 100mW; Tolerance: 1%; Voltage Rating (DC): 50V; Temperature Coefficient: 200ppm/°C; Supplier: Digi-Key; Supplier Part Number: 311-0.0HRCT-ND; Manufacturer Part Number: RC0603FR-070RL; RoHS: Yes; Category: Chip SMD Resistors; Stock: 1785115; Pricing: 1=0,1, 10=0,017, 25=0,0132, 50=0,01, 100=0,007, 250=0,0056, 500=0,00448, 1000=0,00329 (USD); Case/Package: 0603; Pins: 2NUMBER; Contact Plating: Tin,Matte; Case Code (Metric): 1608; Case Code (Imperial): 0603; Min Operating Temperature: -55°C; Max Operating Temperature: 155°C; Packaging: Tape and Reel; Resistor Type: Thick Film; Package Quantity: 5000; Voltage Rating: 50V; Number of Terminations: 2; Termination: SMD/SMT; Max Power Dissipation: 100mW; Features: Moisture Resistant; Series: RC; Construction: Rectangular; Resistance Tolerance: 1%; Technology: THICK FILM; Length: 1.6mm; Width: 0.8mm; Height: 0.45mm; Depth: 0.8mm; Reach SVHC Compliant: No; RoHS Compliant: Yes; Lead Free: 5697LeadFree; Military Standard: Not; ComponentLink1URL: https://datasheet.ciiva.com/11808/0900766b80f96399-11808172.pdf?src-supplier=Rs; ComponentLink1Description: https://datasheet.ciiva.com/11808/0900766b80f96399-11808172.pdf?src-supplier=Rs; ComponentLink2URL: https://datasheet.ciiva.com/5684/443971-5684699.pdf?src-supplier=Farnell; ComponentLink2Description: https://datasheet.ciiva.com/5684/443971-5684699.pdf?src-supplier=Farnell; ComponentLink3URL: https://datasheet.ciiva.com/7983/443971-7983627.pdf?src-supplier=Element14; ComponentLink3Description: https://datasheet.ciiva.com/7983/443971-7983627.pdf?src-supplier=Element14; ComponentLink4URL: https://datasheet.ciiva.com/22643/1868787-22643388.pdf?src-supplier=Element14; ComponentLink4Description: https://datasheet.ciiva.com/22643/1868787-22643388.pdf?src-supplier=Element14; ComponentLink5URL: https://datasheet.ciiva.com/46382/443971-46382072.pdf?src-supplier=Element14; ComponentLink5Description: https://datasheet.ciiva.com/46382/443971-46382072.pdf?src-supplier=Element14; ComponentLink6URL: https://datasheet.ciiva.com/29721/pyu-r-int-thick-7-29721178.pdf?src-supplier=Digi-Key; ComponentLink6Description: https://datasheet.ciiva.com/29721/pyu-r-int-thick-7-29721178.pdf?src-supplier=Digi-Key; ComponentLink7URL: https://datasheet.ciiva.com/29721/pyu-rc0603-51-rohs-l-4-29721179.pdf?src-supplier=Digi-Key; ComponentLink7Description: https://datasheet.ciiva.com/29721/pyu-rc0603-51-rohs-l-4-29721179.pdf?src-supplier=Digi-Key; ComponentLink8URL: https://datasheet.ciiva.com/5558/rc0603-272842-5558341.pdf?src-supplier=Mouser; ComponentLink8Description: https://datasheet.ciiva.com/5558/rc0603-272842-5558341.pdf?src-supplier=Mouser
footprint RESISTOR_0603
pins: 1, 2

## RC0603FR-071KL
designator R?  value 1k  (hidden comment: RC0603FR-071KL)
SMD Chip Resistor, 1 kOhm, ± 1%, 100 mW, 0603 [1608 Metric], Thick Film, General Purpose; Manufacturer: Yageo; Temperature Coefficient: 100ppm/°C; Power Rating: 100mW; Voltage Rating: 50V; Supplier: Digi-Key; Supplier Part Number: 311-1.00KHRCT-ND; Manufacturer Part Number: RC0603FR-071KL; RoHS: Yes; Category: Chip SMD Resistors; Stock: 18662657; Pricing: 1=0,1, 10=0,018, 50=0,0106, 100=0,0088, 500=0,00592, 1000=0,00505 (USD); Case/Package: 0603; Contact Plating: Tin,Matte; Case Code (Imperial): 0603; Case Code (Metric): 1608; Min Operating Temperature: -55°C; Max Operating Temperature: 155°C; Tolerance: 1%; Resistor Type: Thick Film; Packaging: Tape and Reel; Termination: SMD/SMT; Features: Moisture Resistant; Series: RC; Max Power Dissipation: 100mW; Number of Terminations: 2; Technology: THICK FILM; Resistance Tolerance: 1%; Construction: Rectangular; Length: 1.6mm; Height: 0.45mm; Depth: 0.8mm; Reach SVHC Compliant: No; Military Standard: Not; RoHS Compliant: Yes
footprint RESISTOR_0603
pins: 1, 2

## RC0603FR-071ML
designator R?  value 1M  (hidden comment: RC0603FR-071ML)
SMD Chip Resistor, 1 MOhm, ± 1%, 100 mW, 0603 [1608 Metric], Thick Film, General Purpose; Manufacturer: Yageo; Voltage Rating: 75V; Power Rating: 100mW; Temperature Coefficient: 100ppm/°C; Application(s): HIGH RELIABILITY; Supplier: Digi-Key; Supplier Part Number: 311-1.00MHRCT-ND; Manufacturer Part Number: RC0603FR-071ML; RoHS: Yes; Category: Chip SMD Resistors; Stock: 1709958; Pricing: 1=0,1, 10=0,018, 50=0,011, 100=0,009, 500=0,00606, 1000=0,00517 (USD); Case Code (Imperial): 0603; Case Code (Metric): 1608; Weight: 0.000847oz; Min Operating Temperature: -55°C; Max Operating Temperature: 155°C; Tolerance: 1%; Packaging: Cut Tape; Package Quantity: 5000; Termination: SMD/SMT; Type: General Purpose; Series: RC; Technology: THICK FILM; Diameter: 10mm; Length: 1.6mm; Width: 0.8mm; Height: 0.45mm; Lead Pitch: 5mm; Radiation Hardening: 5898YesNo; RoHS Compliant: Yes; Lead Free: 5697LeadFree; ComponentLink1URL: https://datasheet.ciiva.com/11819/0900766b80f96399-11819295.pdf?src-supplier=Rs; ComponentLink1Description: https://datasheet.ciiva.com/11819/0900766b80f96399-11819295.pdf?src-supplier=Rs; ComponentLink2URL: https://datasheet.ciiva.com/7983/443971-7983614.pdf?src-supplier=Element14; ComponentLink2Description: https://datasheet.ciiva.com/7983/443971-7983614.pdf?src-supplier=Element14; ComponentLink3URL: https://datasheet.ciiva.com/12555/rc0603-272842-12555388.pdf?src-supplier=Mouser; ComponentLink3Description: https://datasheet.ciiva.com/12555/rc0603-272842-12555388.pdf?src-supplier=Mouser
footprint RESISTOR_0603
pins: 1, 2

## RC0603FR-072K2L
designator R?  value 2.2k  (hidden comment: RC0603FR-072K2L)
SMD Chip Resistor, 2.2 kOhm, ± 1%, 100 mW, 0603 [1608 Metric], Thick Film, General Purpose; Manufacturer: Yageo; Temperature Coefficient: 100ppm/°C; Power Rating: 100mW; Voltage Rating: 50V; Supplier: Digi-Key; Supplier Part Number: 311-2.20KHRCT-ND; Manufacturer Part Number: RC0603FR-072K2L; RoHS: Yes; Category: Chip SMD Resistors; Stock: 709886; Pricing: 1=0,1, 10=0,019, 50=0,0112, 100=0,0093, 500=0,00622, 1000=0,00532 (USD); Case/Package: 0603; Case Code (Imperial): 0603; Case Code (Metric): 1608; Min Operating Temperature: -55°C; Max Operating Temperature: 155°C; Tolerance: 1%; Packaging: Tape and Reel; Resistor Type: Thick Film; Number of Terminations: 2; Max Power Dissipation: 100mW; Features: Moisture Resistant; Series: RC; Resistance Tolerance: 1%; Lead Free: Lead Free; Reach SVHC Compliant: Unknown; RoHS Compliant: Yes
footprint RESISTOR_0603
pins: 1, 2